# EAGLE library part NJM360* (library mita-akiba)
Dual Comparator JRC Corporation Complementary TTL Output +-4.5 to +-6.5V 200 yens @ Sengoku Akiba
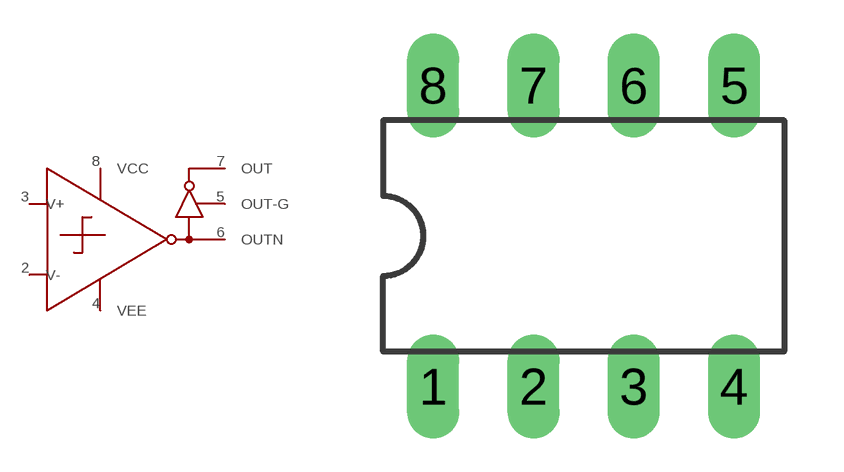
[diagram p58: symbol with the pads of DIL08; footprint DIL08]

Designator prefix -

## NJM360N  [DIL08]
2  V-
3  V+
4  VEE
5  OUT-G
6  OUTN
7  OUT
8  VCC

## Footprint DIL08 (pad centres in mm)
Dual In Line Package
drill 0.813 long: 1 -3.81,-3.81; 2 -1.27,-3.81; 3 1.27,-3.81; 4 3.81,-3.81; 5 3.81,3.81; 6 1.27,3.81; 7 -1.27,3.81; 8 -3.81,3.81